# EAGLE library part ICSP (library ICSP)
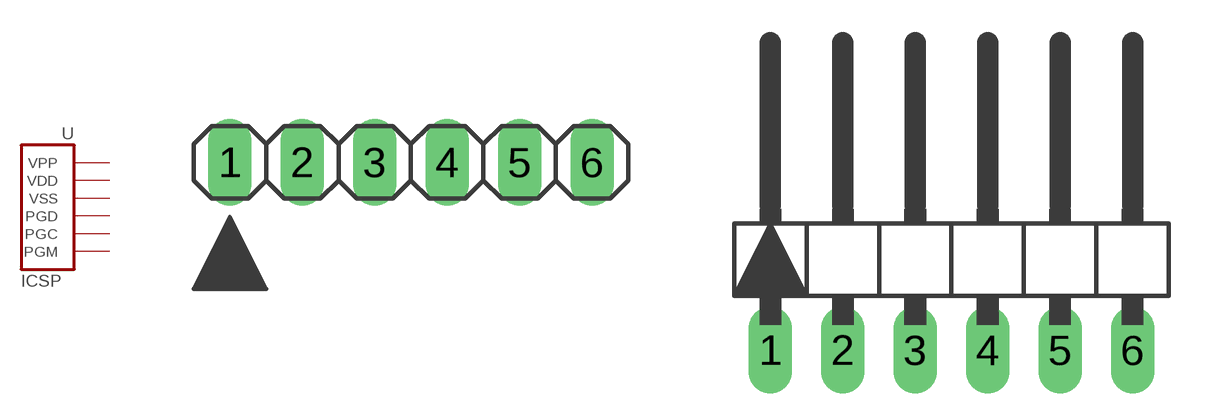
[diagram p0: symbol with the pads of M06; footprints M06, M06/90]

Designator prefix -

## ICSP  [M06]
1  VPP
2  VDD
3  VSS
4  PGD
5  PGC
6  PGM

## ICSP90  [M06/90]
Pads as for M06

## Footprint M06 (pad centres in mm)
drill 1.016 long: 1 0,0; 2 2.54,0; 3 5.08,0; 4 7.62,0; 5 10.16,0; 6 12.7,0

## Footprint M06/90 (pad centres in mm)
drill 1.016 long: 1 0,0; 2 2.54,0; 3 5.08,0; 4 7.62,0; 5 10.16,0; 6 12.7,0